# EAGLE library part MIKROBUS+ (library MikroBUS_baruc)
MikroBUS Source: MikroBUS specification <http://www.mikroe.com/downloads/get/1737/mikrobus_specification.pdf> MikroBUS <http://www.mikroe.com/mikrobus/>
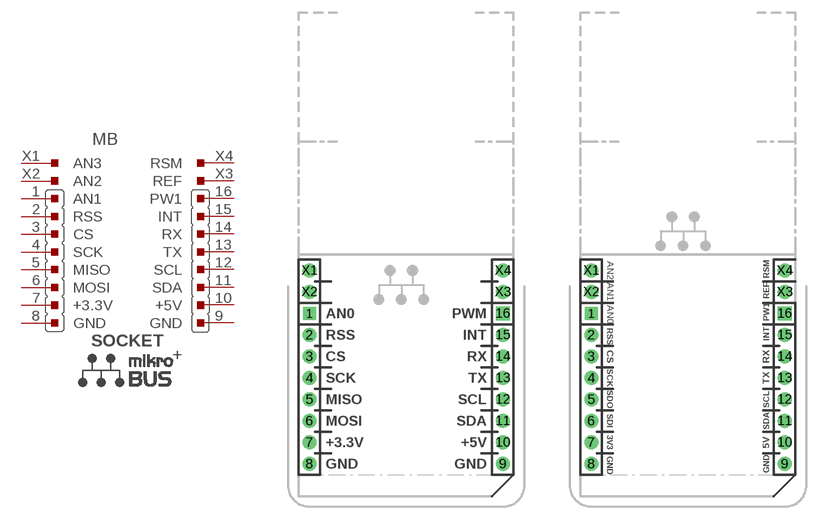
[diagram p0: symbol with the pads of MIKROBUS+; footprints MIKROBUS+, MIKROBUS+_MINI]

Designator prefix MB

## MIKROBUS+  [MIKROBUS+]
1  AN1
2  RSS
3  CS
4  SCK
5  MISO
6  MOSI
7  +3.3V  pas
8  GND  pas
9  GND  pas
10  +5V  pas
11  SDA
12  SCL
13  TX
14  RX
15  INT
16  PW1
X1  AN3
X2  AN2
X3  REF
X4  RSM

## MIKROBUS+MINI  [MIKROBUS+_MINI]
Pads as for MIKROBUS+

## MIKROBUS+SMD  [MIKROBUS+_SMD]
Pads as for MIKROBUS+

## MIKROBUS+SMD_NS  [MIKROBUS+_SMD_NOSILK]
Pads as for MIKROBUS+

## Footprint MIKROBUS+ (pad centres in mm)
MikroBUS You can freely place mikroBUS™ host connectors in your final PCB designs, as long as you clearly mark them on the silkscreen with mikroBUS™ footprint specifications:
drill 1.016 square: 1 1.27,21.59
drill 1.016 pad 1.676: 2 1.27,19.05; 3 1.27,16.51; 4 1.27,13.97; 5 1.27,11.43; 6 1.27,8.89; 7 1.27,6.35; 8 1.27,3.81; 9 24.13,3.81; 10 24.13,6.35; 11 24.13,8.89; 12 24.13,11.43; 13 24.13,13.97; 14 24.13,16.51; 15 24.13,19.05; X1 1.27,26.67; X2 1.27,24.13; X3 24.13,24.13; X4 24.13,26.67
drill 1.016 pad 1.676 square: 16 24.13,21.59

## Footprint MIKROBUS+_MINI (pad centres in mm)
drill 1.016 square: 1 1.27,21.59
drill 1.016 pad 1.676: 2 1.27,19.05; 3 1.27,16.51; 4 1.27,13.97; 5 1.27,11.43; 6 1.27,8.89; 7 1.27,6.35; 8 1.27,3.81; 9 24.13,3.81; 10 24.13,6.35; 11 24.13,8.89; 12 24.13,11.43; 13 24.13,13.97; 14 24.13,16.51; 15 24.13,19.05; X1 1.27,26.67; X2 1.27,24.13; X3 24.13,24.13; X4 24.13,26.67
drill 1.016 pad 1.676 square: 16 24.13,21.59

## Footprint MIKROBUS+_SMD (pad centres in mm)
smd 2.54 x 1.27: 1 0,21.59; 2 2.54,19.05; 3 0,16.51; 4 2.54,13.97; 5 0,11.43; 6 2.54,8.89; 7 0,6.35; 8 2.54,3.81; 9 25.4,3.81; 10 22.86,6.35; 11 25.4,8.89; 12 22.86,11.43; 13 25.4,13.97; 14 22.86,16.51; 15 25.4,19.05; 16 22.86,21.59; X1 0,26.67; X2 2.54,24.13; X3 25.4,24.13; X4 22.86,26.67

## Footprint MIKROBUS+_SMD_NOSILK (pad centres in mm)
smd 2.54 x 1.27: 1 0,21.59; 2 2.54,19.05; 3 0,16.51; 4 2.54,13.97; 5 0,11.43; 6 2.54,8.89; 7 0,6.35; 8 2.54,3.81; 9 25.4,3.81; 10 22.86,6.35; 11 25.4,8.89; 12 22.86,11.43; 13 25.4,13.97; 14 22.86,16.51; 15 25.4,19.05; 16 22.86,21.59; X1 0,26.67; X2 2.54,24.13; X3 25.4,24.13; X4 22.86,26.67